# EAGLE library part 9P_ZIF_59453-091110EDHLF (library CYCFI_Con)
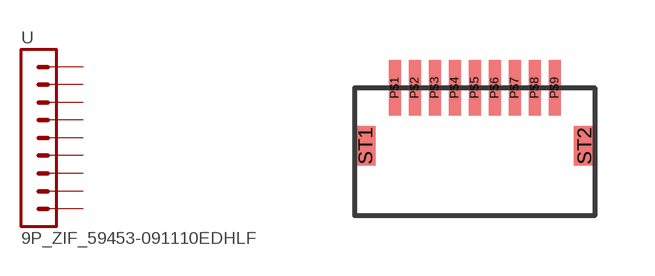
[diagram p24: symbol with the pads of 9P_ZIF_59453-091110EDHLF; footprint 9P_ZIF_59453-091110EDHLF]

Designator prefix -

## 9P_ZIF_59453-091110EDHLF  [9P_ZIF_59453-091110EDHLF]
P$1  1  pas
P$2  2  pas
P$3  3  pas
P$4  4  pas
P$5  5  pas
P$6  6  pas
P$7  7  pas
P$8  8  pas
P$9  9  pas

## Footprint 9P_ZIF_59453-091110EDHLF (pad centres in mm)
smd 0.3 x 1.4: P$1 -2,1.6; P$2 -1.5,1.6; P$3 -1,1.6; P$4 -0.5,1.6; P$5 0,1.6; P$6 0.5,1.6; P$7 1,1.6; P$8 1.5,1.6; P$9 2,1.6
smd 0.52 x 1: ST1 -2.74,0.15; ST2 2.74,0.15